# Altium footprint library PCB2.PcbLib: 22 footprints (part 1 of 2)
Each footprint in its own frame and in the unit in brackets; x right, y up, seen from the top. Pads: shape width x height; smd on the part's side, far side on the other; paste and mask are expansions set on the pad; w line width, h text height; cw(c..) or ccw(c..) is an arc to the next point about the centre after c.
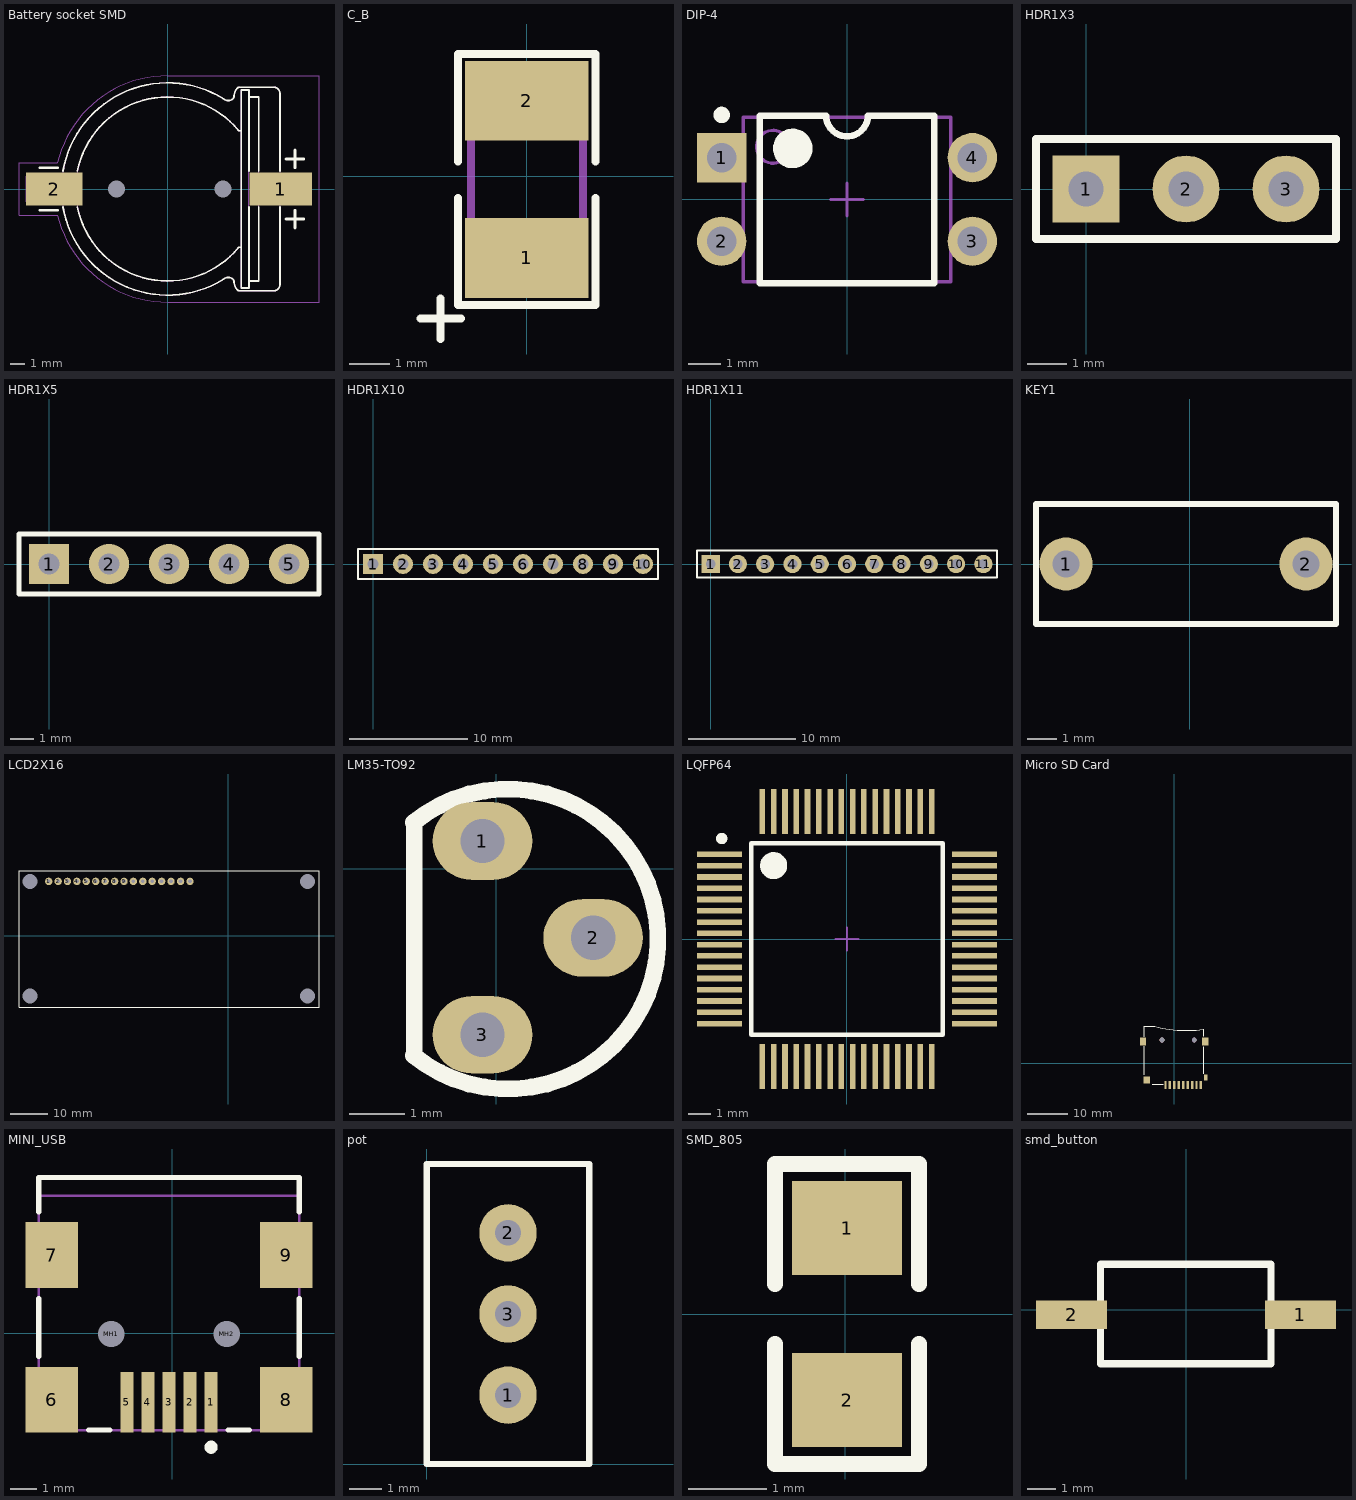
[diagram p0: the footprints below, top view; thin cyan lines are the x and y axes]

## Battery socket SMD [mm]
pads (4):
  rect 4.4x2.3 smd mask+0.05: 1(8,0)
  rect 4x2.3 smd mask+0.05: 2(-8,0)
  round 0.5 hole 1.2 unplated mask+0.05: ""(-3.6,0) ""(3.9,0)
Top Overlay:
  lines w0.12: -7.391,-1.273 ccw(c0,0) 3.939,-6.382 ; -7.39,1.278 cw(c0,0) 3.95,6.375 ; -6.374,-1.275 ccw(c0,0) 5.024,-4.124 ; -6.374,1.275 cw(c0,0) 5.024,4.124 ; 5.025,-4.125 5.2,-4.125 ; 5.025,4.125 5.2,4.125 ; 5.75,-1.275 5.75,-6.5 ; 5.75,1.275 5.75,6.5 ; 6.45,-1.275 6.45,-6.5 5.75,-6.5 ; 6.45,1.275 6.45,6.5 5.75,6.5 ; 7.95,-6.725 7.95,-1.275 ; 7.95,-6.711 cw(c7.434,-6.711) 7.799,-7.076 cw(c7.5,-6.778) 7.5,-7.2 5.25,-7.2 5.106,-7.2 cw(c5.106,-6.944) 4.925,-7.125 cw(c5.468,-6.582) 4.7,-6.582 4.7,-6.556 ccw(c4.444,-6.556) 4.625,-6.375 ccw(c4.323,-6.677) 4.323,-6.25 4.252,-6.25 ccw(c4.252,-6.677) 3.95,-6.375 ; 7.95,1.275 7.95,6.625 7.95,6.711 ccw(c7.434,6.711) 7.799,7.076 ccw(c7.5,6.778) 7.5,7.2 5.25,7.2 5.106,7.2 ccw(c5.106,6.944) 4.925,7.125 ccw(c5.468,6.582) 4.7,6.582 4.7,6.556 cw(c4.444,6.556) 4.625,6.375 cw(c4.323,6.677) 4.323,6.25 4.252,6.25 cw(c4.252,6.677) 3.95,6.375 ; 3.95,-6.375 ccw(c3.95,-6.375) 3.95,-6.375 ; 3.95,6.375 ccw(c3.95,6.375) 3.95,6.375 ; 5.75,-6.5 5.75,-7 5.2,-7 5.2,7 5.75,7 5.75,6.5
  lines w0.2: -9.025,-1.5 -7.775,-1.5 ; -9.025,1.5 -7.775,1.5 ; 8.375,-2.125 9.625,-2.125 ; 8.375,2.125 9.625,2.125 ; 9,-2.75 9,-1.5 ; 9,1.5 9,2.75
Mechanical 14:
  lines w0.01: -7.45,-0.9 -10,-0.9 -10,0.9 -7.45,0.9 ; 5.024,-4.124 cw(c0,0) 5.024,4.124 ; 5.025,-4.125 5.2,-4.125 ; 5.025,4.125 5.2,4.125 ; 7.95,-6.725 7.95,0 7.95,6.625 7.95,6.711 ccw(c7.434,6.711) 7.799,7.076 ccw(c7.5,6.778) 7.5,7.2 5.25,7.2 5.106,7.2 ccw(c5.106,6.944) 4.925,7.125 ccw(c5.468,6.582) 4.7,6.582 4.7,6.556 cw(c4.444,6.556) 4.625,6.375 cw(c4.323,6.677) 4.323,6.25 4.252,6.25 cw(c4.252,6.677) 3.95,6.375 ; 7.95,-6.711 cw(c7.434,-6.711) 7.799,-7.076 cw(c7.5,-6.778) 7.5,-7.2 5.25,-7.2 5.106,-7.2 cw(c5.106,-6.944) 4.925,-7.125 cw(c5.468,-6.582) 4.7,-6.582 4.7,-6.556 ccw(c4.444,-6.556) 4.625,-6.375 ccw(c4.323,-6.677) 4.323,-6.25 4.252,-6.25 ccw(c4.252,-6.677) 3.95,-6.375 ; 7.95,-0.9 10.1,-0.9 10.1,0.9 7.95,0.9 ; 3.95,-6.375 ccw(c3.95,-6.375) 3.95,-6.375 ; 3.95,-6.375 cw(c0,0) 3.95,6.375 ; 3.95,6.375 ccw(c3.95,6.375) 3.95,6.375 ; 5.75,-6.5 5.75,6.5 ; 5.75,-6.5 6.45,-6.5 6.45,0 6.45,6.5 5.75,6.5 ; 5.75,-6.5 5.75,-7 5.2,-7 5.2,7 5.75,7 5.75,6.5
  lines w0.2: -9.375,0 -8.125,0 ; 8.425,0 9.675,0 ; 9.05,-0.625 9.05,0.625
Mechanical 16:
  lines w0.01: -7.785,-1.85 -10.5,-1.85 -10.5,1.85 -7.785,1.85 ; -7.783,1.85 cw(c0,0) 0,8 10.7,8 10.7,1.85 10.7,-1.85 10.7,-8 8.445,-8 0,-8 cw(c0,0) -7.783,-1.852
3D body "User Library-s8411-45r_asm.STEP": height 4.25, standoff -1, extent -9.401,-7.374 9.8,7.375

## C_B [mm]
pads (2):
  rect 3.1x2 smd: 1(-0.002,-2.041) 2(-0.002,1.896)
Top Overlay:
  lines w0.2: -2.669,-3.565 -1.653,-3.565 ; -2.161,-4.073 -2.161,-3.057 ; -1.727,-0.533 -1.727,-3.226 1.727,-3.226 1.727,-0.533 ; -1.727,0.381 -1.727,3.073 1.727,3.073 1.727,0.381
Mechanical 3:
  lines w0.2: -1.397,1.722 -1.397,-1.778 1.403,-1.778 ; -1.397,1.778 1.403,1.778 1.403,-1.722
3D body: height 2.2, standoff 0, extent -1.397,-1.575 1.403,1.575
3D body: height 0.3, standoff 0, extent -1.397,-1.778 1.403,-1.575
3D body: height 0.3, standoff 0, extent -1.397,1.575 1.403,1.778
3D body: height 2.23, standoff 0, extent -1.397,-0.991 1.403,-0.787

## DIP-4 [mm] "DIP; 4 Leads; Row Spacing 7.62 mm; Pitch 2.54 mm"
height 5.6
pads (4):
  rect 1.5x1.5 hole 0.9: 1(-3.81,1.27)
  round 1.5 hole 0.9: 2(-3.81,-1.27) 3(3.81,-1.27) 4(3.81,1.27)
Top Overlay:
  circle w0.25: c-3.81,2.57 r0.125
  circle w0.6: c-1.65,1.55 r0.3
  lines w0.2: -2.65,-2.55 -2.65,2.55 -0.635,2.55 ccw(c0,2.55) 0.635,2.55 2.65,2.55 2.65,-2.55 -2.65,-2.55
Mechanical 13:
  circle w0.1: c-2.25,1.6 r0.5
  lines w0.1: -3.15,-2.5 -3.15,2.5 3.15,2.5 3.15,-2.5 -3.15,-2.5
Mechanical 15:
  lines w0.1: -0.5,0 0.5,0 ; 0,-0.5 0,0.5
3D body "dipswick.STEP": height 3.6, standoff -3.5, extent -3.808,-3.175 4.062,2.845

## HDR1X3 [mm] "Connector; Header; 3 Position"
pads (3):
  rect 1.7x1.7 hole 0.9: 1(0,0)
  round 1.7 hole 0.9: 2(2.54,0) 3(5.08,0)
Top Overlay:
  lines w0.2: -1.27,-1.27 6.35,-1.27 6.35,1.27 -1.27,1.27 -1.27,-1.27

## HDR1X5 [mm] "Connector; Header; 5 Position"
pads (5):
  rect 1.7x1.7 hole 0.9: 1(0,0)
  round 1.7 hole 0.9: 2(2.54,0) 3(5.08,0) 4(7.62,0) 5(10.16,0)
Top Overlay:
  lines w0.2: -1.27,-1.27 11.43,-1.27 11.43,1.27 -1.27,1.27 -1.27,-1.27
3D body "header 5 pin 2.54mm.stp": height 3.71, standoff -3.68, extent -1.27,-1.219 11.43,1.219

## HDR1X10 [mm] "Connector; Header; 10 Position"
pads (10):
  rect 1.7x1.7 hole 0.9: 1(0,0)
  round 1.7 hole 0.9: 2(2.54,0) 3(5.08,0) 4(7.62,0) 5(10.16,0) 6(12.7,0) 7(15.24,0) 8(17.78,0) 9(20.32,0) 10(22.86,0)
Top Overlay:
  lines w0.2: -1.27,-1.27 -1.27,1.27 0.635,1.27 24.13,1.27 24.13,-1.27 -1.27,-1.27
3D body "HDR 2.54 10 pin.stp": height 8.38, standoff -2.54, extent -1.397,-1.27 24.13,1.27

## HDR1X11 [mm] "Connector; Header; 11 Position"
pads (11):
  rect 1.7x1.7 hole 0.9: 1(0,0)
  round 1.7 hole 0.9: 2(2.54,0) 3(5.08,0) 4(7.62,0) 5(10.16,0) 6(12.7,0) 7(15.24,0) 8(17.78,0) 9(20.32,0) 10(22.86,0) 11(25.4,0)
Top Overlay:
  lines w0.2: -1.27,-1.27 26.67,-1.27 26.67,1.27 0.635,1.27 -1.27,1.27 -1.27,-1.27
3D body "heder 11 pin 2.54.stp": height 3.93, standoff -3.68, extent -1.27,-1.27 26.67,1.168

## KEY1 [mm]
pads (2):
  round 1.8 hole 0.9: 1(-4.191,0) 2(3.937,0)
Top Overlay:
  lines w0.2: -5.207,-2.032 4.953,-2.032 4.953,2.032 -5.207,2.032 -5.207,-2.032
3D body: height 7.1, standoff 0, extent -2.413,1.016 2.159,1.143
3D body: height 7.1, standoff 0, extent -2.413,-1.222 2.159,-1.095
3D body: height 7, standoff 0, extent -2.413,-1.143 2.159,1.016
3D body: height 6, standoff 0, extent -5.207,-2.032 4.953,2.032

## LCD2X16 [mm]
pads (20):
  round 0 hole 4: 0(-53.575,-16.2) 0(-53.575,14.725) 0(21.35,-16.2) 0(21.35,14.725)
  round 2 hole 1: 1(-48.55,14.725) 2(-46,14.725) 3(-43.475,14.725) 4(-40.925,14.725) 5(-38.4,14.725) 6(-35.85,14.725) 7(-33.3,14.725) 8(-30.75,14.725) 9(-28.2,14.725) 10(-25.675,14.725) 11(-23.125,14.725) 12(-20.6,14.725) 13(-18.05,14.725) 14(-15.5,14.725) 15(-12.925,14.725) 16(-10.375,14.725)
Top Overlay:
  lines w0.254: -56.575,-19.325 -56.575,17.65 24.475,17.65 24.475,-19.325 -56.575,-19.325
3D body "LCD2X16--3DModel-STEP-56544.STEP": height 12, standoff 2, extent -56.891,-18.254 23.109,17.746

## LM35-TO92 [mm]
pads (3):
  oval 1.8x1.4 hole 0.8: 1(-0.25,0.5) 2(1.75,-1.25) 3(-0.25,-3)
Top Overlay:
  lines w0.305: -1.493,-3.376 ccw(c0.212,-1.27) -1.493,0.836 ; -1.482,-3.387 -1.482,0.847
3D body "to92.STEP": height 10.45, standoff -10, extent -0.381,-3.554 3.238,1.016

## LQFP64 [mm]
pads (64):
  rect 2x0.25 smd: 1(-5.646,3.75) 2(-5.646,3.25) 3(-5.646,2.75) 4(-5.646,2.25) 5(-5.646,1.75) 6(-5.646,1.25) 7(-5.646,0.75) 8(-5.646,0.25) 9(-5.646,-0.25) 10(-5.646,-0.75) 11(-5.646,-1.25) 12(-5.646,-1.75) 13(-5.646,-2.25) 14(-5.646,-2.75) 15(-5.646,-3.25) 16(-5.646,-3.75) 33(5.646,-3.75) 34(5.646,-3.25) 35(5.646,-2.75) 36(5.646,-2.25) 37(5.646,-1.75) 38(5.646,-1.25) 39(5.646,-0.75) 40(5.646,-0.25) 41(5.646,0.25) 42(5.646,0.75) 43(5.646,1.25) 44(5.646,1.75) 45(5.646,2.25) 46(5.646,2.75) 47(5.646,3.25) 48(5.646,3.75)
  rect 0.25x2 smd: 17(-3.75,-5.646) 18(-3.25,-5.646) 19(-2.75,-5.646) 20(-2.25,-5.646) 21(-1.75,-5.646) 22(-1.25,-5.646) 23(-0.75,-5.646) 24(-0.25,-5.646) 25(0.25,-5.646) 26(0.75,-5.646) 27(1.25,-5.646) 28(1.75,-5.646) 29(2.25,-5.646) 30(2.75,-5.646) 31(3.25,-5.646) 32(3.75,-5.646) 49(3.75,5.646) 50(3.25,5.646) 51(2.75,5.646) 52(2.25,5.646) 53(1.75,5.646) 54(1.25,5.646) 55(0.75,5.646) 56(0.25,5.646) 57(-0.25,5.646) 58(-0.75,5.646) 59(-1.25,5.646) 60(-1.75,5.646) 61(-2.25,5.646) 62(-2.75,5.646) 63(-3.25,5.646) 64(-3.75,5.646)
Top Overlay:
  circle w0.25: c-5.55,4.45 r0.125
  circle w0.6: c-3.25,3.25 r0.3
  lines w0.2: -4.25,-4.25 -4.25,4.25 4.25,4.25 4.25,-4.25 -4.25,-4.25
Mechanical 15:
  lines w0.1: -0.5,0 0.5,0 ; 0,-0.5 0,0.5
3D body "STM32F103RBT6--3DModel-STEP-56544.STEP": height 1.61, standoff 0.01, extent -6,-6 6,6

## Micro SD Card [mm]
pads (13):
  rect 0.6x2 smd: 1(-2.23,-5.414) 2(-1.129,-5.414) 3(-0.029,-5.414) 4(1.071,-5.414) 5(2.17,-5.414) 6(3.27,-5.414) 7(4.37,-5.414) 8(5.47,-5.414) 9(6.57,-5.414)
  rect 0.8x1.5 smd: 10(7.78,-3.603)
  rect 1.7x1.7 smd: 11(-6.879,-4.195)
  rect 1.5x2 smd: 12(7.653,5.414) 13(-7.779,5.405)
via -3.094,5.741 diameter 1.2 hole 1.2
via 4.907,5.741 diameter 1.2 hole 1.2
Top Overlay:
  lines w0.254: -7.533,-2.913 -7.533,4.199 ; -7.533,6.612 -7.533,9.17 -4.935,9.17 ccw(c2.868,38.149) 7.271,8.462 7.271,6.684 ; -5.555,-5.254 -2.761,-5.254 ; 7.272,-2.587 7.272,4.144 ; 7.271,6.684 7.272,6.684
Keep-Out Layer:
  lines w0.254: -3.579,5.764 ccw(c-3.079,5.764) -2.579,5.764 ccw(c-3.079,5.764) -3.579,5.764 ; 4.421,5.764 ccw(c4.921,5.764) 5.42,5.764 ccw(c4.921,5.764) 4.421,5.764
Drill Drawing:
  circle w0.254: c4.921,5.764 r0.5
  circle w0.254: c-3.079,5.764 r0.5
3D body "User Library-MEM2055-00-190-01-A_revG.STEP": height 1.85, standoff -0.6, extent -8.045,-5.44 7.955,9.81

## MINI_USB [mm]
pads (11):
  rect 0.5x2.3 smd mask+0.04: 1(1.468,-2.626) 2(0.668,-2.626) 3(-0.132,-2.626) 4(-0.932,-2.626) 5(-1.732,-2.626)
  rect 2x2.5 smd: 6(-4.582,-2.526) 7(-4.582,2.974) 8(4.318,-2.526) 9(4.318,2.974)
  round 0.6 hole 1 unplated: MH1(-2.332,-0.026) MH2(2.068,-0.026)
Top Overlay:
  circle w0.25: c1.468,-4.326 r0.125
  lines w0.2: -5.082,-0.876 -5.082,1.324 ; -5.082,4.624 -5.082,5.924 4.818,5.924 4.818,4.624 ; -3.182,-3.676 -2.382,-3.676 ; 2.118,-3.676 2.918,-3.676 ; 4.818,-0.876 4.818,1.324
Mechanical 1:
  lines w0.1: -5.082,5.224 4.818,5.224
  text "PCB Edge" at 3.904,5.656 h0.25
Mechanical 13:
  lines w0.1: -5.082,-3.676 -5.082,5.924 4.818,5.924 4.818,-3.676 -5.082,-3.676
3D body "usb_a-usb_b-m5-smd-c.STEP": height 3.93, standoff -1, extent -5.082,-3.376 4.818,5.874

## pot [mm]
pads (3):
  round 1.8 hole 0.8: 1(2.54,2.159) 2(2.54,7.239) 3(2.54,4.699)
Top Overlay:
  lines w0.2: 0,0 5.08,0 5.08,9.398 0,9.398 0,0
3D body "23949.stp": height 13.3, standoff -1.25, extent 0,-0.076 4.826,9.474
3D body: height 3.94, standoff -3.94, extent -0.127,0 -0.127,0

## SMD_805 [mm]
pads (2):
  rect 1.4x1.2 smd: 1(0.025,1.092) 2(0.025,-1.092)
Top Overlay:
  lines w0.2: -0.889,-0.381 -0.889,-1.905 0.94,-1.905 0.94,-0.381 ; -0.889,0.381 -0.889,1.905 0.94,1.905 0.94,0.381
3D body: height 1.1, standoff 0, extent -0.66,0.584 0.711,1.118
3D body: height 1.1, standoff 0, extent -0.66,-1.092 0.711,-0.584
3D body: height 1.1, standoff 0, extent -0.66,-0.584 0.711,0.584

## smd_button [mm]
pads (2):
  rect 2.5x1 smd: 1(4.013,-0.178) 2(-4.039,-0.178)
Top Overlay:
  lines w0.254: -3.023,-1.9 -3.023,1.6 2.977,1.6 2.977,-1.9 -3.023,-1.9
3D body "User Library-KFC-2Pin SMD.step": height 4.2, standoff 0, extent -4.127,-2.004 3.873,1.496